# EAGLE library part CD4024BM96 (library Deegou_IC)
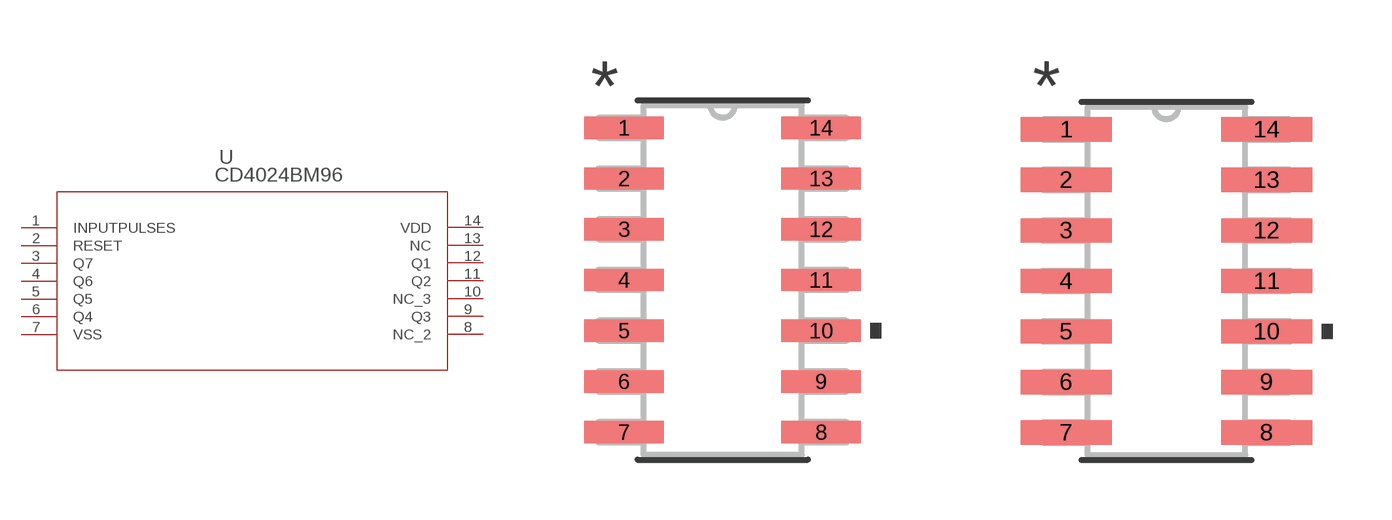
[diagram p184: symbol with the pads of D14; footprints D14, D14-M]

Designator prefix U

## CD4024BM96 (MANUFACTURER_PART_NUMBER: CD4024BM96; VENDOR: Texas Instruments)  [D14]
1  INPUTPULSES  in
2  RESET  pas
3  Q7  pas
4  Q6  pas
5  Q5  pas
6  Q4  pas
7  VSS  pwr
8  NC_2  nc
9  Q3  pas
10  NC_3  nc
11  Q2  pas
12  Q1  pas
13  NC  nc
14  VDD  pwr

## CD4024BM96D14-M (MANUFACTURER_PART_NUMBER: CD4024BM96; VENDOR: Texas Instruments)  [D14-M]
Pads as for D14

## CD4024BM96D14-L (MANUFACTURER_PART_NUMBER: CD4024BM96; VENDOR: Texas Instruments)  [D14-L]
Pads as for D14

## Footprint D14 (pad centres in mm)
smd 1.981 x 0.559: 1 -2.464,3.81; 2 -2.464,2.54; 3 -2.464,1.27; 4 -2.464,0; 5 -2.464,-1.27; 6 -2.464,-2.54; 7 -2.464,-3.81; 8 2.464,-3.81; 9 2.464,-2.54; 10 2.464,-1.27; 11 2.464,0; 12 2.464,1.27; 13 2.464,2.54; 14 2.464,3.81

## Footprint D14-M (pad centres in mm)
smd 2.286 x 0.61: 1 -2.515,3.81; 2 -2.515,2.54; 3 -2.515,1.27; 4 -2.515,0; 5 -2.515,-1.27; 6 -2.515,-2.54; 7 -2.515,-3.81; 8 2.515,-3.81; 9 2.515,-2.54; 10 2.515,-1.27; 11 2.515,0; 12 2.515,1.27; 13 2.515,2.54; 14 2.515,3.81

## Footprint D14-L (pad centres in mm)
smd 1.676 x 0.508: 1 -2.413,3.81; 2 -2.413,2.54; 3 -2.413,1.27; 4 -2.413,0; 5 -2.413,-1.27; 6 -2.413,-2.54; 7 -2.413,-3.81; 8 2.413,-3.81; 9 2.413,-2.54; 10 2.413,-1.27; 11 2.413,0; 12 2.413,1.27; 13 2.413,2.54; 14 2.413,3.81